# EAGLE library part TMDS442PNPR (library Inventory)
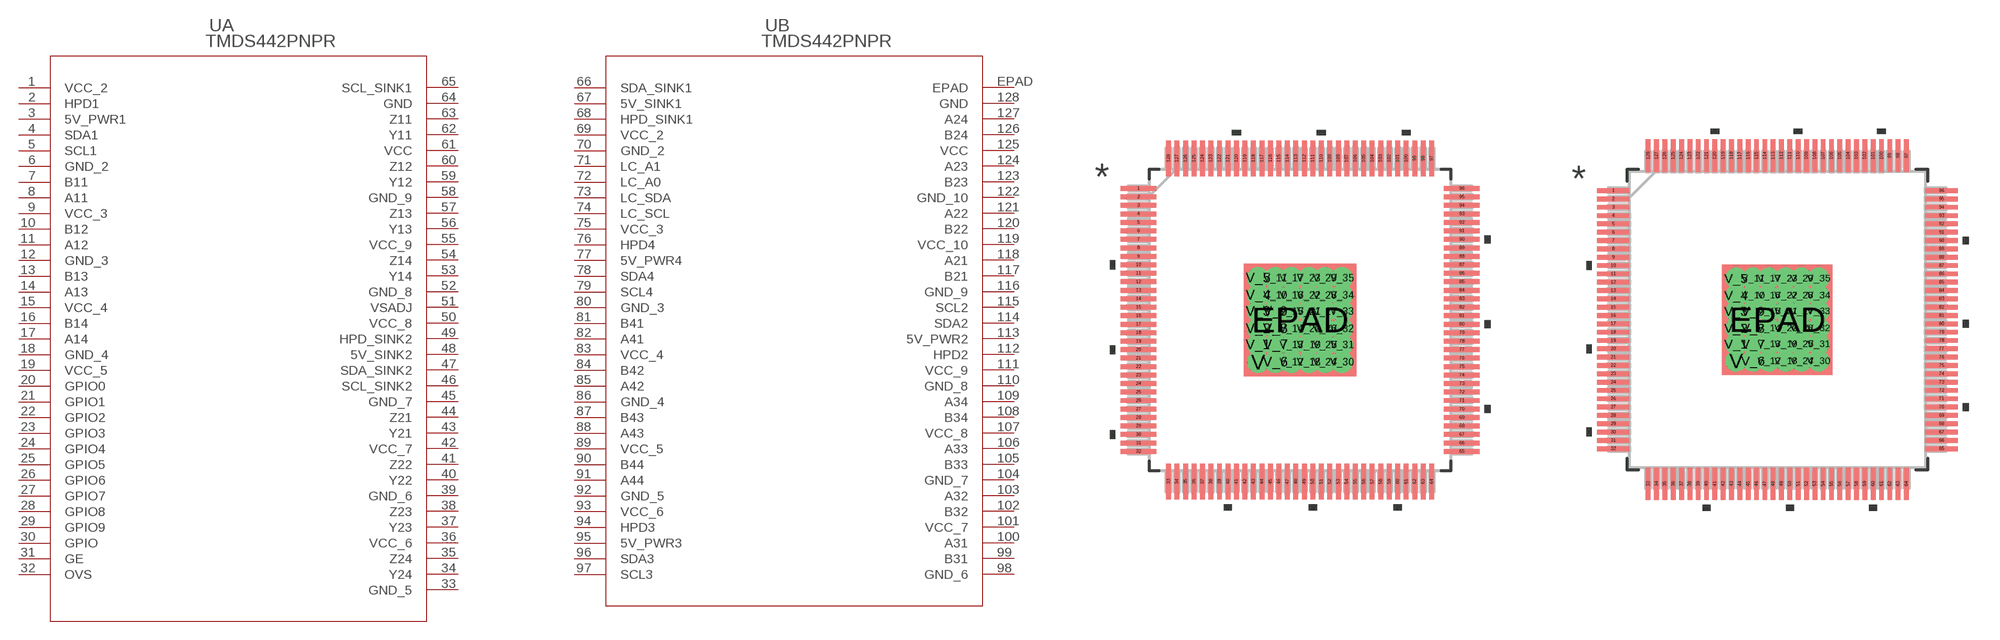
[diagram p11: symbol with the pads of PNP128_5P3X5P3; footprints PNP128_5P3X5P3, PNP128_5P3X5P3-M]

Designator prefix U; gates A=TMDS442_PNP_128_A B=TMDS442_PNP_128_B

## TMDS442PNPR (COPYRIGHT: Copyright (C) 2022 Ultra Librarian. All rights reserved.; DIGI-KEY_PART_NUMBER_1: 296-21971-1-ND; DIGI-KEY_PART_NUMBER_2: 296-21971-2-ND; DIGI-KEY_PART_NUMBER_3: 296-21971-6-ND; DIGI-KEY_PART_NUMBER_4: 2156-TMDS442PNPR-ND; MANUFACTURER_PART_NUMBER: TMDS442PNPR; MFR_NAME: Texas Instruments)  [PNP128_5P3X5P3]
1  A:VCC_2  pwr
2  A:HPD1  out
3  A:5V_PWR1  in
4  A:SDA1
5  A:SCL1
6  A:GND_2  pwr
7  A:B11  in
8  A:A11  in
9  A:VCC_3  pwr
10  A:B12  in
11  A:A12  in
12  A:GND_3  pwr
13  A:B13  in
14  A:A13  in
15  A:VCC_4  pwr
16  A:B14  in
17  A:A14  in
18  A:GND_4  pwr
19  A:VCC_5  pwr
20  A:GPIO0  in
21  A:GPIO1  in
22  A:GPIO2  in
23  A:GPIO3  in
24  A:GPIO4  in
25  A:GPIO5  in
26  A:GPIO6  in
27  A:GPIO7  in
28  A:GPIO8  in
29  A:GPIO9  in
30  A:GPIO  in
31  A:GE  in
32  A:OVS  pas
33  A:GND_5  pwr
34  A:Y24  out
35  A:Z24  out
36  A:VCC_6  pwr
37  A:Y23  out
38  A:Z23  out
39  A:GND_6  pwr
40  A:Y22  out
41  A:Z22  out
42  A:VCC_7  pwr
43  A:Y21  out
44  A:Z21  out
45  A:GND_7  pwr
46  A:SCL_SINK2
47  A:SDA_SINK2
48  A:5V_SINK2  out
49  A:HPD_SINK2  in
50  A:VCC_8  pwr
51  A:VSADJ  in
52  A:GND_8  pwr
53  A:Y14  out
54  A:Z14  out
55  A:VCC_9  pwr
56  A:Y13  out
57  A:Z13  out
58  A:GND_9  pwr
59  A:Y12  out
60  A:Z12  out
61  A:VCC  pwr
62  A:Y11  out
63  A:Z11  out
64  A:GND  pwr
65  A:SCL_SINK1
66  B:SDA_SINK1
67  B:5V_SINK1  out
68  B:HPD_SINK1  in
69  B:VCC_2  pwr
70  B:GND_2  pwr
71  B:LC_A1  in
72  B:LC_A0  in
73  B:LC_SDA
74  B:LC_SCL
75  B:VCC_3  pwr
76  B:HPD4  out
77  B:5V_PWR4  in
78  B:SDA4
79  B:SCL4
80  B:GND_3  pwr
81  B:B41  in
82  B:A41  in
83  B:VCC_4  pwr
84  B:B42  in
85  B:A42  in
86  B:GND_4  pwr
87  B:B43  in
88  B:A43  in
89  B:VCC_5  pwr
90  B:B44  in
91  B:A44  in
92  B:GND_5  pwr
93  B:VCC_6  pwr
94  B:HPD3  out
95  B:5V_PWR3  in
96  B:SDA3
97  B:SCL3
98  B:GND_6  pwr
99  B:B31  in
100  B:A31  in
101  B:VCC_7  pwr
102  B:B32  in
103  B:A32  in
104  B:GND_7  pwr
105  B:B33  in
106  B:A33  in
107  B:VCC_8  pwr
108  B:B34  in
109  B:A34  in
110  B:GND_8  pwr
111  B:VCC_9  pwr
112  B:HPD2  out
113  B:5V_PWR2  in
114  B:SDA2
115  B:SCL2
116  B:GND_9  pwr
117  B:B21  in
118  B:A21  in
119  B:VCC_10  pwr
120  B:B22  in
121  B:A22  in
122  B:GND_10  pwr
123  B:B23  in
124  B:A23  in
125  B:VCC  pwr
126  B:B24  in
127  B:A24  in
128  B:GND  pwr
EPAD  B:EPAD  pas

## TMDS442PNPRPNP128_5P3X5P3-M (COPYRIGHT: Copyright (C) 2022 Ultra Librarian. All rights reserved.; DIGI-KEY_PART_NUMBER_1: 296-21971-1-ND; DIGI-KEY_PART_NUMBER_2: 296-21971-2-ND; DIGI-KEY_PART_NUMBER_3: 296-21971-6-ND; DIGI-KEY_PART_NUMBER_4: 2156-TMDS442PNPR-ND; MANUFACTURER_PART_NUMBER: TMDS442PNPR; MFR_NAME: Texas Instruments)  [PNP128_5P3X5P3-M]
Pads as for PNP128_5P3X5P3

## TMDS442PNPRPNP128_5P3X5P3-L (COPYRIGHT: Copyright (C) 2022 Ultra Librarian. All rights reserved.; DIGI-KEY_PART_NUMBER_1: 296-21971-1-ND; DIGI-KEY_PART_NUMBER_2: 296-21971-2-ND; DIGI-KEY_PART_NUMBER_3: 296-21971-6-ND; DIGI-KEY_PART_NUMBER_4: 2156-TMDS442PNPR-ND; MANUFACTURER_PART_NUMBER: TMDS442PNPR; MFR_NAME: Texas Instruments)  [PNP128_5P3X5P3-L]
Pads as for PNP128_5P3X5P3

## Footprint PNP128_5P3X5P3 (pad centres in mm)
smd 1.676 x 0.229: 1 -7.62,6.2; 2 -7.62,5.8; 3 -7.62,5.4; 4 -7.62,5; 5 -7.62,4.6; 6 -7.62,4.2; 7 -7.62,3.8; 8 -7.62,3.4; 9 -7.62,3; 10 -7.62,2.6; 11 -7.62,2.2; 12 -7.62,1.8; 13 -7.62,1.4; 14 -7.62,1; 15 -7.62,0.6; 16 -7.62,0.2; 17 -7.62,-0.2; 18 -7.62,-0.6; 19 -7.62,-1; 20 -7.62,-1.4; 21 -7.62,-1.8; 22 -7.62,-2.2; 23 -7.62,-2.6; 24 -7.62,-3; 25 -7.62,-3.4; 26 -7.62,-3.8; 27 -7.62,-4.2; 28 -7.62,-4.6; 29 -7.62,-5; 30 -7.62,-5.4; 31 -7.62,-5.8; 32 -7.62,-6.2; 65 7.62,-6.2; 66 7.62,-5.8; 67 7.62,-5.4; 68 7.62,-5; 69 7.62,-4.6; 70 7.62,-4.2; 71 7.62,-3.8; 72 7.62,-3.4; 73 7.62,-3; 74 7.62,-2.6; 75 7.62,-2.2; 76 7.62,-1.8; 77 7.62,-1.4; 78 7.62,-1; 79 7.62,-0.6; 80 7.62,-0.2; 81 7.62,0.2; 82 7.62,0.6; 83 7.62,1; 84 7.62,1.4; 85 7.62,1.8; 86 7.62,2.2; 87 7.62,2.6; 88 7.62,3; 89 7.62,3.4; 90 7.62,3.8; 91 7.62,4.2; 92 7.62,4.6; 93 7.62,5; 94 7.62,5.4; 95 7.62,5.8; 96 7.62,6.2
smd 0.229 x 1.676: 33 -6.2,-7.62; 34 -5.8,-7.62; 35 -5.4,-7.62; 36 -5,-7.62; 37 -4.6,-7.62; 38 -4.2,-7.62; 39 -3.8,-7.62; 40 -3.4,-7.62; 41 -3,-7.62; 42 -2.6,-7.62; 43 -2.2,-7.62; 44 -1.8,-7.62; 45 -1.4,-7.62; 46 -1,-7.62; 47 -0.6,-7.62; 48 -0.2,-7.62; 49 0.2,-7.62; 50 0.6,-7.62; 51 1,-7.62; 52 1.4,-7.62; 53 1.8,-7.62; 54 2.2,-7.62; 55 2.6,-7.62; 56 3,-7.62; 57 3.4,-7.62; 58 3.8,-7.62; 59 4.2,-7.62; 60 4.6,-7.62; 61 5,-7.62; 62 5.4,-7.62; 63 5.8,-7.62; 64 6.2,-7.62; 97 6.2,7.62; 98 5.8,7.62; 99 5.4,7.62; 100 5,7.62; 101 4.6,7.62; 102 4.2,7.62; 103 3.8,7.62; 104 3.4,7.62; 105 3,7.62; 106 2.6,7.62; 107 2.2,7.62; 108 1.8,7.62; 109 1.4,7.62; 110 1,7.62; 111 0.6,7.62; 112 0.2,7.62; 113 -0.2,7.62; 114 -0.6,7.62; 115 -1,7.62; 116 -1.4,7.62; 117 -1.8,7.62; 118 -2.2,7.62; 119 -2.6,7.62; 120 -3,7.62; 121 -3.4,7.62; 122 -3.8,7.62; 123 -4.2,7.62; 124 -4.6,7.62; 125 -5,7.62; 126 -5.4,7.62; 127 -5.8,7.62; 128 -6.2,7.62
smd 5.3 x 5.3: EPAD 0,0
drill 0.508 pad 0.508: V -1.981,-1.981; V_1 -1.981,-1.168; V_2 -1.981,-0.406; V_3 -1.981,0.406; V_4 -1.981,1.168; V_5 -1.981,1.981; V_6 -1.168,-1.981; V_7 -1.168,-1.168; V_8 -1.168,-0.406; V_9 -1.168,0.406; V_10 -1.168,1.168; V_11 -1.168,1.981; V_12 -0.406,-1.981; V_13 -0.406,-1.168; V_14 -0.406,-0.406; V_15 -0.406,0.406; V_16 -0.406,1.168; V_17 -0.406,1.981; V_18 0.406,-1.981; V_19 0.406,-1.168; V_20 0.406,-0.406; V_21 0.406,0.406; V_22 0.406,1.168; V_23 0.406,1.981; V_24 1.168,-1.981; V_25 1.168,-1.168; V_26 1.168,-0.406; V_27 1.168,0.406; V_28 1.168,1.168; V_29 1.168,1.981; V_30 1.981,-1.981; V_31 1.981,-1.168; V_32 1.981,-0.406; V_33 1.981,0.406; V_34 1.981,1.168; V_35 1.981,1.981

## Footprint PNP128_5P3X5P3-M (pad centres in mm)
smd 1.562 x 0.229: 1 -7.88,6.2; 2 -7.88,5.8; 3 -7.88,5.4; 4 -7.88,5; 5 -7.88,4.6; 6 -7.88,4.2; 7 -7.88,3.8; 8 -7.88,3.4; 9 -7.88,3; 10 -7.88,2.6; 11 -7.88,2.2; 12 -7.88,1.8; 13 -7.88,1.4; 14 -7.88,1; 15 -7.88,0.6; 16 -7.88,0.2; 17 -7.88,-0.2; 18 -7.88,-0.6; 19 -7.88,-1; 20 -7.88,-1.4; 21 -7.88,-1.8; 22 -7.88,-2.2; 23 -7.88,-2.6; 24 -7.88,-3; 25 -7.88,-3.4; 26 -7.88,-3.8; 27 -7.88,-4.2; 28 -7.88,-4.6; 29 -7.88,-5; 30 -7.88,-5.4; 31 -7.88,-5.8; 32 -7.88,-6.2; 65 7.88,-6.2; 66 7.88,-5.8; 67 7.88,-5.4; 68 7.88,-5; 69 7.88,-4.6; 70 7.88,-4.2; 71 7.88,-3.8; 72 7.88,-3.4; 73 7.88,-3; 74 7.88,-2.6; 75 7.88,-2.2; 76 7.88,-1.8; 77 7.88,-1.4; 78 7.88,-1; 79 7.88,-0.6; 80 7.88,-0.2; 81 7.88,0.2; 82 7.88,0.6; 83 7.88,1; 84 7.88,1.4; 85 7.88,1.8; 86 7.88,2.2; 87 7.88,2.6; 88 7.88,3; 89 7.88,3.4; 90 7.88,3.8; 91 7.88,4.2; 92 7.88,4.6; 93 7.88,5; 94 7.88,5.4; 95 7.88,5.8; 96 7.88,6.2
smd 0.229 x 1.562: 33 -6.2,-7.88; 34 -5.8,-7.88; 35 -5.4,-7.88; 36 -5,-7.88; 37 -4.6,-7.88; 38 -4.2,-7.88; 39 -3.8,-7.88; 40 -3.4,-7.88; 41 -3,-7.88; 42 -2.6,-7.88; 43 -2.2,-7.88; 44 -1.8,-7.88; 45 -1.4,-7.88; 46 -1,-7.88; 47 -0.6,-7.88; 48 -0.2,-7.88; 49 0.2,-7.88; 50 0.6,-7.88; 51 1,-7.88; 52 1.4,-7.88; 53 1.8,-7.88; 54 2.2,-7.88; 55 2.6,-7.88; 56 3,-7.88; 57 3.4,-7.88; 58 3.8,-7.88; 59 4.2,-7.88; 60 4.6,-7.88; 61 5,-7.88; 62 5.4,-7.88; 63 5.8,-7.88; 64 6.2,-7.88; 97 6.2,7.88; 98 5.8,7.88; 99 5.4,7.88; 100 5,7.88; 101 4.6,7.88; 102 4.2,7.88; 103 3.8,7.88; 104 3.4,7.88; 105 3,7.88; 106 2.6,7.88; 107 2.2,7.88; 108 1.8,7.88; 109 1.4,7.88; 110 1,7.88; 111 0.6,7.88; 112 0.2,7.88; 113 -0.2,7.88; 114 -0.6,7.88; 115 -1,7.88; 116 -1.4,7.88; 117 -1.8,7.88; 118 -2.2,7.88; 119 -2.6,7.88; 120 -3,7.88; 121 -3.4,7.88; 122 -3.8,7.88; 123 -4.2,7.88; 124 -4.6,7.88; 125 -5,7.88; 126 -5.4,7.88; 127 -5.8,7.88; 128 -6.2,7.88
smd 5.3 x 5.3: EPAD 0,0
drill 0.508 pad 0.508: V -1.981,-1.981; V_1 -1.981,-1.168; V_2 -1.981,-0.406; V_3 -1.981,0.406; V_4 -1.981,1.168; V_5 -1.981,1.981; V_6 -1.168,-1.981; V_7 -1.168,-1.168; V_8 -1.168,-0.406; V_9 -1.168,0.406; V_10 -1.168,1.168; V_11 -1.168,1.981; V_12 -0.406,-1.981; V_13 -0.406,-1.168; V_14 -0.406,-0.406; V_15 -0.406,0.406; V_16 -0.406,1.168; V_17 -0.406,1.981; V_18 0.406,-1.981; V_19 0.406,-1.168; V_20 0.406,-0.406; V_21 0.406,0.406; V_22 0.406,1.168; V_23 0.406,1.981; V_24 1.168,-1.981; V_25 1.168,-1.168; V_26 1.168,-0.406; V_27 1.168,0.406; V_28 1.168,1.168; V_29 1.168,1.981; V_30 1.981,-1.981; V_31 1.981,-1.168; V_32 1.981,-0.406; V_33 1.981,0.406; V_34 1.981,1.168; V_35 1.981,1.981

## Footprint PNP128_5P3X5P3-L (pad centres in mm)
smd 1.156 x 0.178: 1 -7.677,6.2; 2 -7.677,5.8; 3 -7.677,5.4; 4 -7.677,5; 5 -7.677,4.6; 6 -7.677,4.2; 7 -7.677,3.8; 8 -7.677,3.4; 9 -7.677,3; 10 -7.677,2.6; 11 -7.677,2.2; 12 -7.677,1.8; 13 -7.677,1.4; 14 -7.677,1; 15 -7.677,0.6; 16 -7.677,0.2; 17 -7.677,-0.2; 18 -7.677,-0.6; 19 -7.677,-1; 20 -7.677,-1.4; 21 -7.677,-1.8; 22 -7.677,-2.2; 23 -7.677,-2.6; 24 -7.677,-3; 25 -7.677,-3.4; 26 -7.677,-3.8; 27 -7.677,-4.2; 28 -7.677,-4.6; 29 -7.677,-5; 30 -7.677,-5.4; 31 -7.677,-5.8; 32 -7.677,-6.2; 65 7.677,-6.2; 66 7.677,-5.8; 67 7.677,-5.4; 68 7.677,-5; 69 7.677,-4.6; 70 7.677,-4.2; 71 7.677,-3.8; 72 7.677,-3.4; 73 7.677,-3; 74 7.677,-2.6; 75 7.677,-2.2; 76 7.677,-1.8; 77 7.677,-1.4; 78 7.677,-1; 79 7.677,-0.6; 80 7.677,-0.2; 81 7.677,0.2; 82 7.677,0.6; 83 7.677,1; 84 7.677,1.4; 85 7.677,1.8; 86 7.677,2.2; 87 7.677,2.6; 88 7.677,3; 89 7.677,3.4; 90 7.677,3.8; 91 7.677,4.2; 92 7.677,4.6; 93 7.677,5; 94 7.677,5.4; 95 7.677,5.8; 96 7.677,6.2
smd 0.178 x 1.156: 33 -6.2,-7.677; 34 -5.8,-7.677; 35 -5.4,-7.677; 36 -5,-7.677; 37 -4.6,-7.677; 38 -4.2,-7.677; 39 -3.8,-7.677; 40 -3.4,-7.677; 41 -3,-7.677; 42 -2.6,-7.677; 43 -2.2,-7.677; 44 -1.8,-7.677; 45 -1.4,-7.677; 46 -1,-7.677; 47 -0.6,-7.677; 48 -0.2,-7.677; 49 0.2,-7.677; 50 0.6,-7.677; 51 1,-7.677; 52 1.4,-7.677; 53 1.8,-7.677; 54 2.2,-7.677; 55 2.6,-7.677; 56 3,-7.677; 57 3.4,-7.677; 58 3.8,-7.677; 59 4.2,-7.677; 60 4.6,-7.677; 61 5,-7.677; 62 5.4,-7.677; 63 5.8,-7.677; 64 6.2,-7.677; 97 6.2,7.677; 98 5.8,7.677; 99 5.4,7.677; 100 5,7.677; 101 4.6,7.677; 102 4.2,7.677; 103 3.8,7.677; 104 3.4,7.677; 105 3,7.677; 106 2.6,7.677; 107 2.2,7.677; 108 1.8,7.677; 109 1.4,7.677; 110 1,7.677; 111 0.6,7.677; 112 0.2,7.677; 113 -0.2,7.677; 114 -0.6,7.677; 115 -1,7.677; 116 -1.4,7.677; 117 -1.8,7.677; 118 -2.2,7.677; 119 -2.6,7.677; 120 -3,7.677; 121 -3.4,7.677; 122 -3.8,7.677; 123 -4.2,7.677; 124 -4.6,7.677; 125 -5,7.677; 126 -5.4,7.677; 127 -5.8,7.677; 128 -6.2,7.677
smd 5.3 x 5.3: EPAD 0,0
drill 0.508 pad 0.508: V -1.981,-1.981; V_1 -1.981,-1.168; V_2 -1.981,-0.406; V_3 -1.981,0.406; V_4 -1.981,1.168; V_5 -1.981,1.981; V_6 -1.168,-1.981; V_7 -1.168,-1.168; V_8 -1.168,-0.406; V_9 -1.168,0.406; V_10 -1.168,1.168; V_11 -1.168,1.981; V_12 -0.406,-1.981; V_13 -0.406,-1.168; V_14 -0.406,-0.406; V_15 -0.406,0.406; V_16 -0.406,1.168; V_17 -0.406,1.981; V_18 0.406,-1.981; V_19 0.406,-1.168; V_20 0.406,-0.406; V_21 0.406,0.406; V_22 0.406,1.168; V_23 0.406,1.981; V_24 1.168,-1.981; V_25 1.168,-1.168; V_26 1.168,-0.406; V_27 1.168,0.406; V_28 1.168,1.168; V_29 1.168,1.981; V_30 1.981,-1.981; V_31 1.981,-1.168; V_32 1.981,-0.406; V_33 1.981,0.406; V_34 1.981,1.168; V_35 1.981,1.981